# Altium schematic symbol library ATROTECH.SchLib: 260 symbols (part 2 of 2)
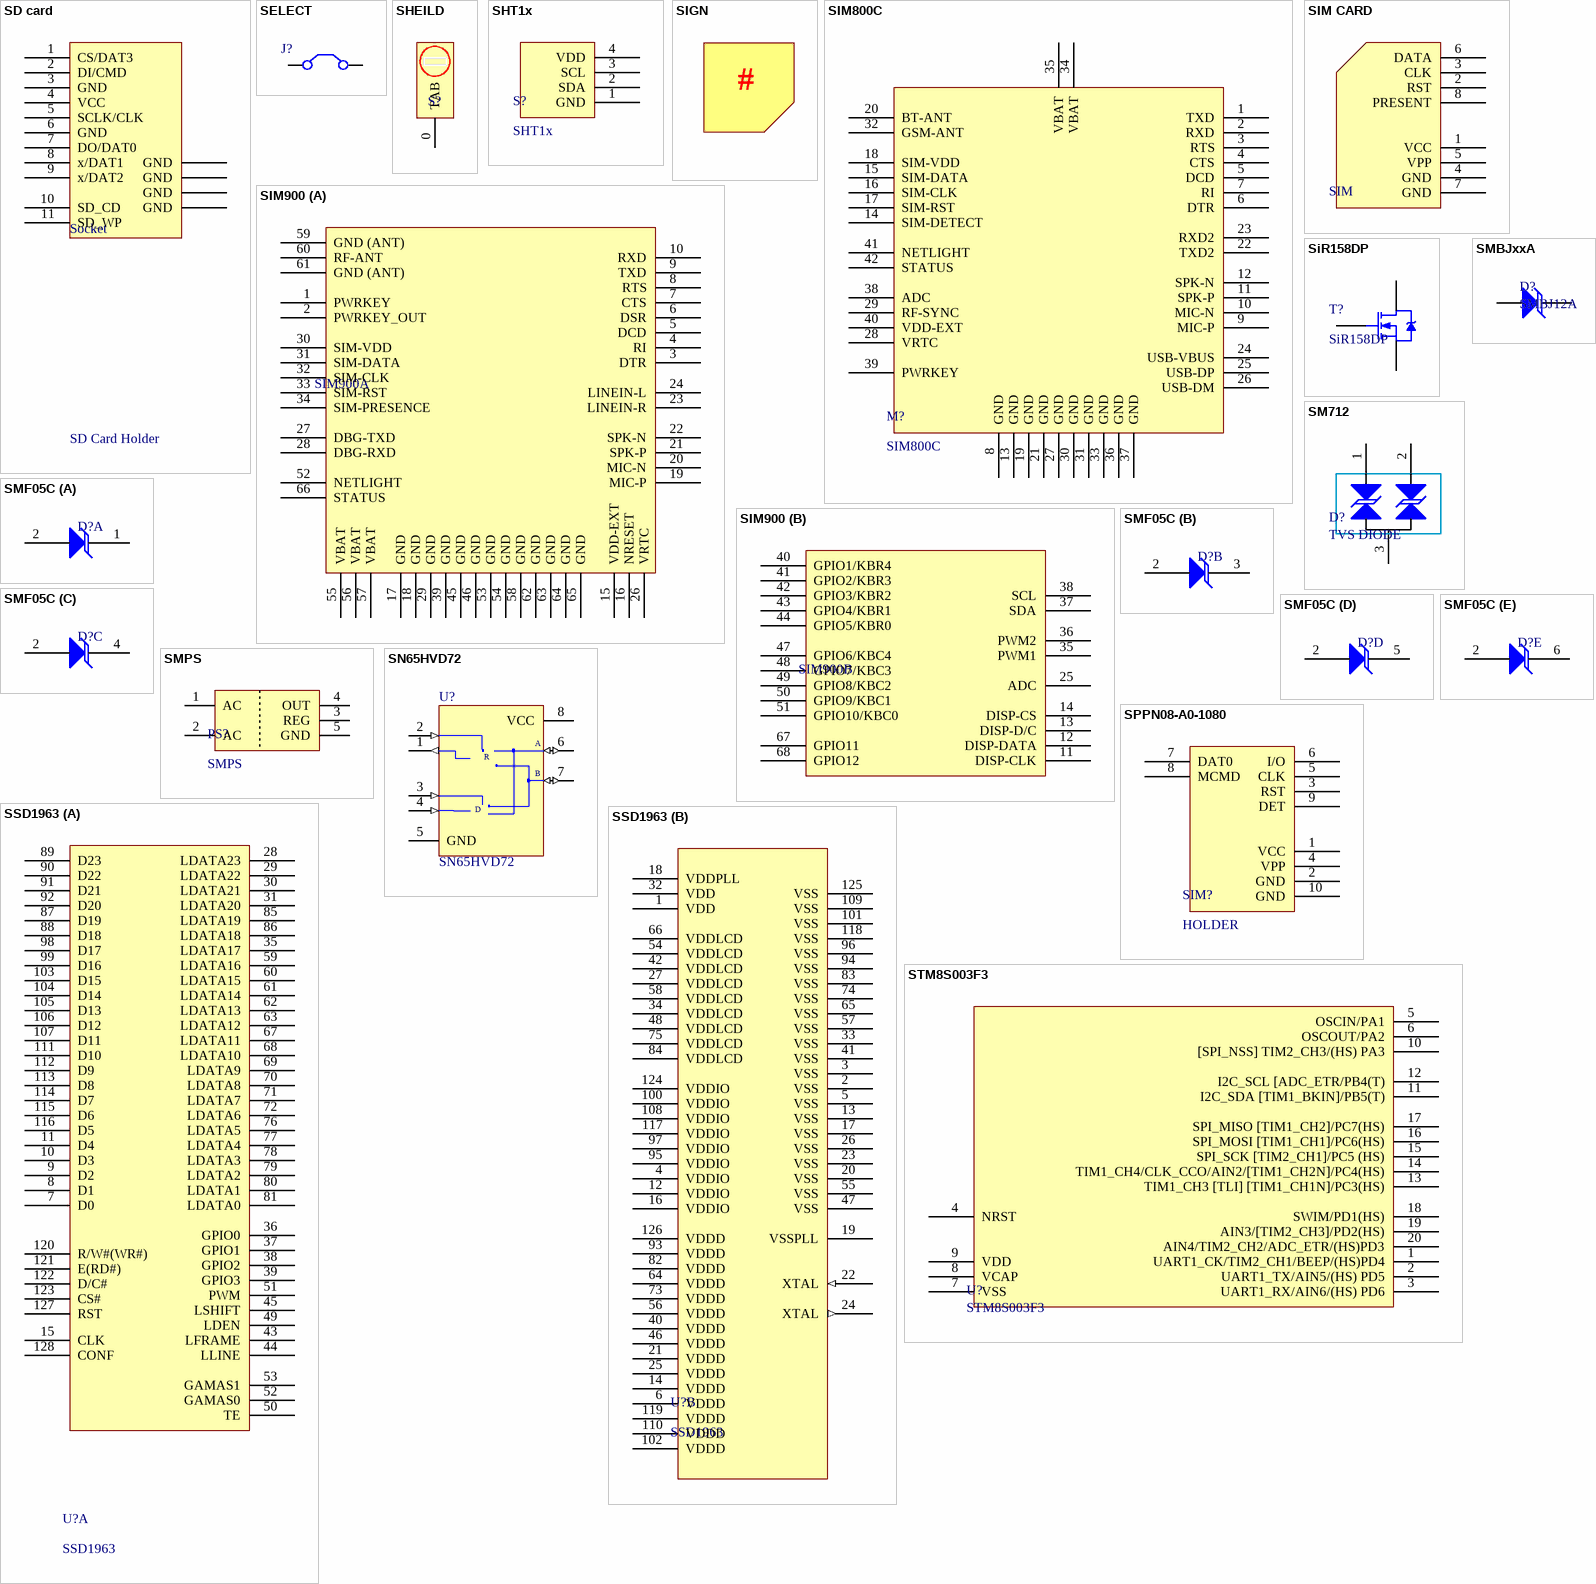
[diagram p11: symbols SD card to STM8S003F3]

## SHT1x
designator S?
Humidity and Temperature Sensor; Type: SHT10, SHT11, SHT15
footprint SHT1x
pins: 1 GND, 2 SDA, 3 SCL, 4 VDD "3.3V"

## SIGN
designator ?
footprint POL-SIGN
text: #

## SIM800C
designator M?
footprint SIM800
pins: 1 TXD, 2 RXD, 3 RTS, 4 CTS, 5 DCD, 6 DTR, 7 RI, 8 GND, 9 MIC-P, 10 MIC-N, 11 SPK-P, 12 SPK-N, 13 GND, 14 SIM-DETECT, 15 SIM-DATA, 16 SIM-CLK, 17 SIM-RST, 18 SIM-VDD, 19 GND, 20 BT-ANT, 21 GND, 22 TXD2, 23 RXD2, 24 USB-VBUS, 25 USB-DP, 26 USB-DM, 27 GND, 28 VRTC, 29 RF-SYNC, 30 GND, 31 GND, 32 GSM-ANT, 33 GND, 34 VBAT, 35 VBAT, 36 GND, 37 GND, 38 ADC, 39 PWRKEY, 40 VDD-EXT, 41 NETLIGHT, 42 STATUS

## SIM900
designator SIM900  (value not drawn)
footprint SIM900
part A pins: 1 PWRKEY, 2 PWRKEY_OUT, 3 DTR, 4 RI, 5 DCD, 6 DSR, 7 CTS, 8 RTS, 9 TXD, 10 RXD, 15 VDD-EXT, 16 NRESET, 17 GND, 18 GND, 19 MIC-P, 20 MIC-N, 21 SPK-P, 22 SPK-N, 23 LINEIN-R, 24 LINEIN-L, 26 VRTC, 27 DBG-TXD, 28 DBG-RXD, 29 GND, 30 SIM-VDD, 31 SIM-DATA, 32 SIM-CLK, 33 SIM-RST, 34 SIM-PRESENCE, 39 GND, 45 GND, 46 GND, 52 NETLIGHT, 53 GND, 54 GND, 55 VBAT, 56 VBAT, 57 VBAT, 58 GND, 59 GND (ANT), 60 RF-ANT, 61 GND (ANT), 62 GND, 63 GND, 64 GND, 65 GND, 66 STATUS
part B pins: 11 DISP-CLK, 12 DISP-DATA, 13 DISP-D/C, 14 DISP-CS, 25 ADC, 35 PWM1, 36 PWM2, 37 SDA, 38 SCL, 40 GPIO1/KBR4, 41 GPIO2/KBR3, 42 GPIO3/KBR2, 43 GPIO4/KBR1, 44 GPIO5/KBR0, 47 GPIO6/KBC4, 48 GPIO7/KBC3, 49 GPIO8/KBC2, 50 GPIO9/KBC1, 51 GPIO10/KBC0, 67 GPIO11, 68 GPIO12

## SIM CARD
designator SIM  (value not drawn)
footprint SIM-HOLDER-2
footprint SIM-HOLDER-6-2
pins: 1 VCC, 2 RST, 3 CLK, 4 GND, 5 VPP, 6 DATA, 7 GND, 8 PRESENT

## SiR158DP
designator T?
N-Channel 30 V (D-S) MOSFET
footprint PowerPAK SO-8 Single
pins: 1 S, 2 S, 3 S, 4 G, 5 D, 6 D, 7 D, 8 D

## SM712
designator D?, comment TVS DIODE
footprint SOT-23
pins: 1 K, 2 K, 3 A

## SMBJxxA
designator D?, comment SMBJ12A
Surface Mount Transient Voltage Suppressors Diode; Parameter 1: *
footprint DO-214AA
pins: 1 A, 2 K

## SMF05C
designator D?  (value not drawn)
TVS Diode Array  For ESD and Latch-Up Protection
footprint SOT-363
part A pins: 1 K, 2 A
part B pins: 2 A, 3 K
part C pins: 2 A, 4 K
part D pins: 2 A, 5 K
part E pins: 2 A, 6 K

## SMPS
designator PS?
footprint SMPS-20X30
pins: 1 AC, 2 AC, 3 REG, 4 OUT, 5 GND

## SN65HVD72
designator U?
3.3-V Supply RS-485 With IEC ESD protection; Published: 16-Jan-2001; LatestRevisionDate: 29-May-2009; LatestRevisionNote: Component Body Added.; DatasheetVersion: Feb-1996; PackageVersion: RevB, 21-0043; PackageReference: PA8; Publisher: Altium Limited; PackageDescription: DIP, 8-Pin, Row Spacing 7.62 mm, Pitch 2.54 mm; Code_JEDEC: MS-001-AB
footprint SOIC-8N
pins: 1 RO (out), 2 ~{RE} (in), 3 DE (in), 4 DI (in), 5 GND (power), 6 A (io), 7 B (io), 8 VCC (power)
text: R; D

## SPPN08-A0-1080
designator SIM?, comment HOLDER
8pin SimCard holder
footprint SPPN08-A0-1080 (8pin Sim card holder)
pins: 1 VCC, 2 GND, 3 RST, 4 VPP, 5 CLK, 6 I/O, 7 DAT0, 8 MCMD, 9 DET, 10 GND

## SSD1963
designator U?
footprint TQFP-128
part A pins: 7 D0, 8 D1, 9 D2, 10 D3, 11 D4, 15 CLK, 28 LDATA23, 29 LDATA22, 30 LDATA21, 31 LDATA20, 35 LDATA17, 36 GPIO0, 37 GPIO1, 38 GPIO2, 39 GPIO3, 43 LFRAME, 44 LLINE, 45 LSHIFT, 49 LDEN, 50 TE, 51 PWM, 52 GAMAS0, 53 GAMAS1, 59 LDATA16, 60 LDATA15, 61 LDATA14, 62 LDATA13, 63 LDATA12, 67 LDATA11, 68 LDATA10, 69 LDATA9, 70 LDATA8, 71 LDATA7, 72 LDATA6, 76 LDATA5, 77 LDATA4, 78 LDATA3, 79 LDATA2, 80 LDATA1, 81 LDATA0, 85 LDATA19, 86 LDATA18, 87 D19, 88 D18, 89 D23, 90 D22, 91 D21, 92 D20, 98 D17, 99 D16, 103 D15, 104 D14, 105 D13, 106 D12, 107 D11, 111 D10, 112 D9, 113 D8, 114 D7, 115 D6, 116 D5, 120 R/W#(WR#), 121 E(RD#), 122 D/C#, 123 CS#, 127 RST, 128 CONF
part B pins: 1 VDD, 2 VSS, 3 VSS, 4 VDDIO, 5 VSS, 6 VDDD, 12 VDDIO, 13 VSS, 14 VDDD, 16 VDDIO, 17 VSS, 18 VDDPLL, 19 VSSPLL, 20 VSS, 21 VDDD, 22 XTAL (in), 23 VSS, 24 XTAL (out), 25 VDDD, 26 VSS, 27 VDDLCD, 32 VDD, 33 VSS, 34 VDDLCD, 40 VDDD, 41 VSS, 42 VDDLCD, 46 VDDD, 47 VSS, 48 VDDLCD, 54 VDDLCD, 55 VSS, 56 VDDD, 57 VSS, 58 VDDLCD, 64 VDDD, 65 VSS, 66 VDDLCD, 73 VDDD, 74 VSS, 75 VDDLCD, 82 VDDD, 83 VSS, 84 VDDLCD, 93 VDDD, 94 VSS, 95 VDDIO, 96 VSS, 97 VDDIO, 100 VDDIO, 101 VSS, 102 VDDD, 108 VDDIO, 109 VSS, 110 VDDD, 117 VDDIO, 118 VSS, 119 VDDD, 124 VDDIO, 125 VSS, 126 VDDD

## STM8S003F3
designator U?
Value line, 16-MHz STM8S 8-bit MCU, 8-Kbyte Flash memory, / 128-byte data EEPROM, 10-bit ADC, 3 timers, UART, SPI, I²C
footprint TSSOP-20 (Footprint not found)
pins: 1 UART1_CK/TIM2_CH1/BEEP/(HS)PD4, 2 UART1_TX/AIN5/(HS) PD5, 3 UART1_RX/AIN6/(HS) PD6, 4 NRST, 5 OSCIN/PA1, 6 OSCOUT/PA2, 7 VSS, 8 VCAP, 9 VDD, 10 [SPI_NSS] TIM2_CH3/(HS) PA3, 11 I2C_SDA [TIM1_BKIN]/PB5(T), 12 I2C_SCL [ADC_ETR/PB4(T), 13 TIM1_CH3 [TLI] [TIM1_CH1N]/PC3(HS), 14 TIM1_CH4/CLK_CCO/AIN2/[TIM1_CH2N]/PC4(HS), 15 SPI_SCK [TIM2_CH1]/PC5 (HS), 16 SPI_MOSI [TIM1_CH1]/PC6(HS), 17 SPI_MISO [TIM1_CH2]/PC7(HS), 18 SWIM/PD1(HS), 19 AIN3/[TIM2_CH3]/PD2(HS), 20 AIN4/TIM2_CH2/ADC_ETR/(HS)PD3

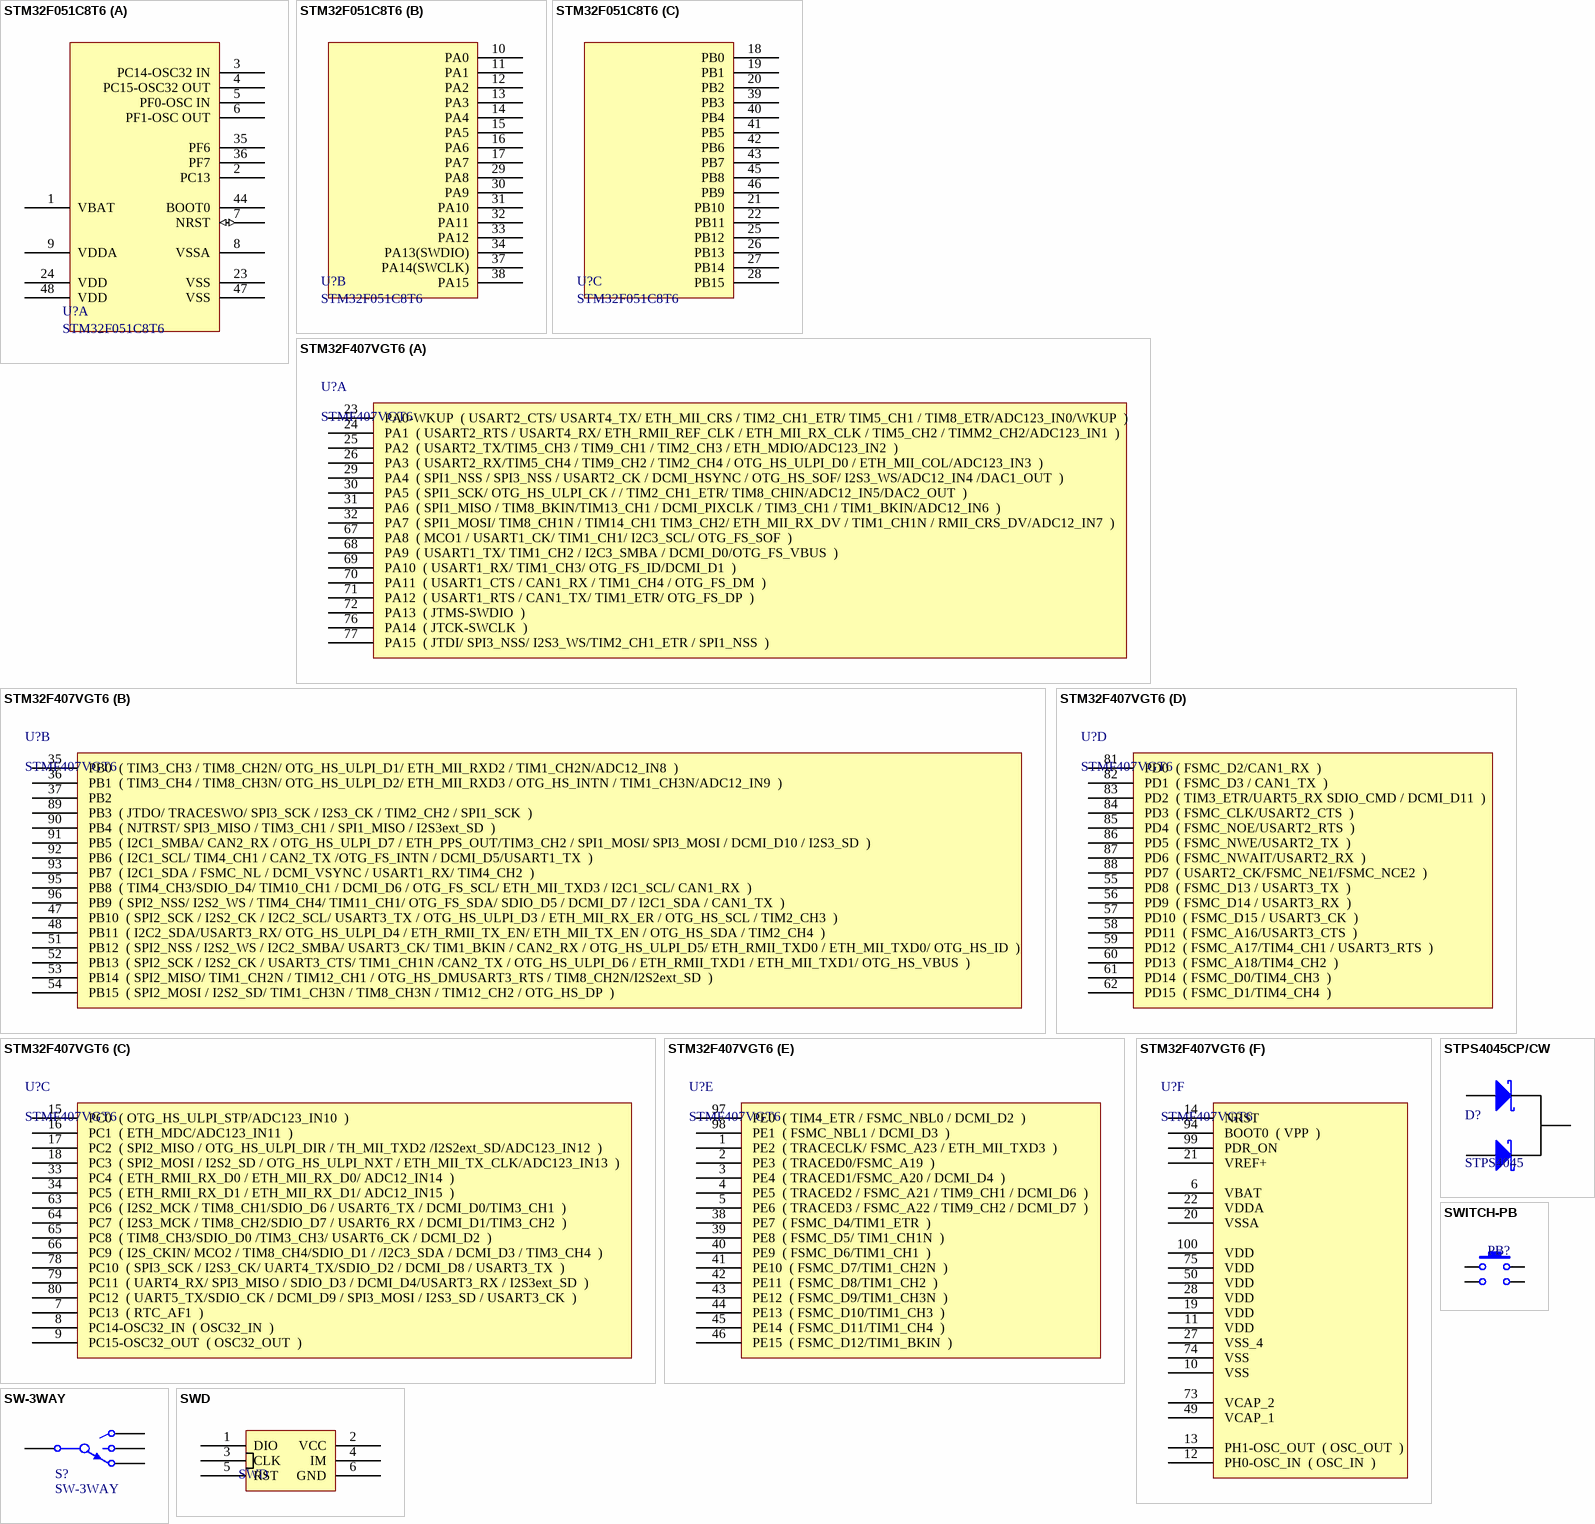
[diagram p8: symbols STM32F051C8T6 to SWITCH-PB]

## STM32F051C8T6
designator U?
ARM®-based 32-bit MCU, 16 to 64 KB Flash, 11 timers, ADC, / DAC and communication interfaces, 2.0-3.6 V
footprint LQFP-48
part A pins: 1 VBAT, 2 PC13, 3 PC14-OSC32 IN, 4 PC15-OSC32 OUT, 5 PF0-OSC IN, 6 PF1-OSC OUT, 7 NRST (io) "Device reset input / internal reset output", 8 VSSA (power) "Analog ground", 9 VDDA (power), 23 VSS, 24 VDD, 35 PF6, 36 PF7, 44 BOOT0, 47 VSS, 48 VDD
part B pins: 10 PA0, 11 PA1, 12 PA2, 13 PA3, 14 PA4, 15 PA5, 16 PA6, 17 PA7, 29 PA8, 30 PA9, 31 PA10, 32 PA11, 33 PA12, 34 PA13(SWDIO), 37 PA14(SWCLK), 38 PA15
part C pins: 18 PB0, 19 PB1, 20 PB2, 21 PB10, 22 PB11, 25 PB12, 26 PB13, 27 PB14, 28 PB15, 39 PB3, 40 PB4, 41 PB5, 42 PB6, 43 PB7, 45 PB8, 46 PB9

## STM32F407VGT6
designator U?, comment STMF407VGT6
footprint TQFP-100
part A pins: 23  PA0-WKUP  ( USART2_CTS/ USART4_TX/ ETH_MII_CRS / TIM2_CH1_ETR/ TIM5_CH1 / TIM8_ETR/ADC123_IN0/WKUP  ), 24  PA1  ( USART2_RTS / USART4_RX/ ETH_RMII_REF_CLK / ETH_MII_RX_CLK / TIM5_CH2 / TIMM2_CH2/ADC123_IN1  ), 25  PA2  ( USART2_TX/TIM5_CH3 / TIM9_CH1 / TIM2_CH3 / ETH_MDIO/ADC123_IN2  ), 26  PA3  ( USART2_RX/TIM5_CH4 / TIM9_CH2 / TIM2_CH4 / OTG_HS_ULPI_D0 / ETH_MII_COL/ADC123_IN3  ), 29  PA4  ( SPI1_NSS / SPI3_NSS / USART2_CK / DCMI_HSYNC / OTG_HS_SOF/ I2S3_WS/ADC12_IN4 /DAC1_OUT  ), 30  PA5  ( SPI1_SCK/ OTG_HS_ULPI_CK / / TIM2_CH1_ETR/ TIM8_CHIN/ADC12_IN5/DAC2_OUT  ), 31  PA6  ( SPI1_MISO / TIM8_BKIN/TIM13_CH1 / DCMI_PIXCLK / TIM3_CH1 / TIM1_BKIN/ADC12_IN6  ), 32  PA7  ( SPI1_MOSI/ TIM8_CH1N / TIM14_CH1 TIM3_CH2/ ETH_MII_RX_DV / TIM1_CH1N / RMII_CRS_DV/ADC12_IN7  ), 67  PA8  ( MCO1 / USART1_CK/ TIM1_CH1/ I2C3_SCL/ OTG_FS_SOF  ), 68  PA9  ( USART1_TX/ TIM1_CH2 / I2C3_SMBA / DCMI_D0/OTG_FS_VBUS  ), 69  PA10  ( USART1_RX/ TIM1_CH3/ OTG_FS_ID/DCMI_D1  ), 70  PA11  ( USART1_CTS / CAN1_RX / TIM1_CH4 / OTG_FS_DM  ), 71  PA12  ( USART1_RTS / CAN1_TX/ TIM1_ETR/ OTG_FS_DP  ), 72  PA13  ( JTMS-SWDIO  ), 76  PA14  ( JTCK-SWCLK  ), 77  PA15  ( JTDI/ SPI3_NSS/ I2S3_WS/TIM2_CH1_ETR / SPI1_NSS  )
part B pins: 35  PB0  ( TIM3_CH3 / TIM8_CH2N/ OTG_HS_ULPI_D1/ ETH_MII_RXD2 / TIM1_CH2N/ADC12_IN8  ), 36  PB1  ( TIM3_CH4 / TIM8_CH3N/ OTG_HS_ULPI_D2/ ETH_MII_RXD3 / OTG_HS_INTN / TIM1_CH3N/ADC12_IN9  ), 37  PB2  , 47  PB10  ( SPI2_SCK / I2S2_CK / I2C2_SCL/ USART3_TX / OTG_HS_ULPI_D3 / ETH_MII_RX_ER / OTG_HS_SCL / TIM2_CH3  ), 48  PB11  ( I2C2_SDA/USART3_RX/ OTG_HS_ULPI_D4 / ETH_RMII_TX_EN/ ETH_MII_TX_EN / OTG_HS_SDA / TIM2_CH4  ), 51  PB12  ( SPI2_NSS / I2S2_WS / I2C2_SMBA/ USART3_CK/ TIM1_BKIN / CAN2_RX / OTG_HS_ULPI_D5/ ETH_RMII_TXD0 / ETH_MII_TXD0/ OTG_HS_ID  ), 52  PB13  ( SPI2_SCK / I2S2_CK / USART3_CTS/ TIM1_CH1N /CAN2_TX / OTG_HS_ULPI_D6 / ETH_RMII_TXD1 / ETH_MII_TXD1/ OTG_HS_VBUS  ), 53  PB14  ( SPI2_MISO/ TIM1_CH2N / TIM12_CH1 / OTG_HS_DMUSART3_RTS / TIM8_CH2N/I2S2ext_SD  ), 54  PB15  ( SPI2_MOSI / I2S2_SD/ TIM1_CH3N / TIM8_CH3N / TIM12_CH2 / OTG_HS_DP  ), 89  PB3  ( JTDO/ TRACESWO/ SPI3_SCK / I2S3_CK / TIM2_CH2 / SPI1_SCK  ), 90  PB4  ( NJTRST/ SPI3_MISO / TIM3_CH1 / SPI1_MISO / I2S3ext_SD  ), 91  PB5  ( I2C1_SMBA/ CAN2_RX / OTG_HS_ULPI_D7 / ETH_PPS_OUT/TIM3_CH2 / SPI1_MOSI/ SPI3_MOSI / DCMI_D10 / I2S3_SD  ), 92  PB6  ( I2C1_SCL/ TIM4_CH1 / CAN2_TX /OTG_FS_INTN / DCMI_D5/USART1_TX  ), 93  PB7  ( I2C1_SDA / FSMC_NL / DCMI_VSYNC / USART1_RX/ TIM4_CH2  ), 95  PB8  ( TIM4_CH3/SDIO_D4/ TIM10_CH1 / DCMI_D6 / OTG_FS_SCL/ ETH_MII_TXD3 / I2C1_SCL/ CAN1_RX  ), 96  PB9  ( SPI2_NSS/ I2S2_WS / TIM4_CH4/ TIM11_CH1/ OTG_FS_SDA/ SDIO_D5 / DCMI_D7 / I2C1_SDA / CAN1_TX  )
part C pins: 7  PC13  ( RTC_AF1  ), 8  PC14-OSC32_IN  ( OSC32_IN  ), 9  PC15-OSC32_OUT  ( OSC32_OUT  ), 15  PC0  ( OTG_HS_ULPI_STP/ADC123_IN10  ), 16  PC1  ( ETH_MDC/ADC123_IN11  ), 17  PC2  ( SPI2_MISO / OTG_HS_ULPI_DIR / TH_MII_TXD2 /I2S2ext_SD/ADC123_IN12  ), 18  PC3  ( SPI2_MOSI / I2S2_SD / OTG_HS_ULPI_NXT / ETH_MII_TX_CLK/ADC123_IN13  ), 33  PC4  ( ETH_RMII_RX_D0 / ETH_MII_RX_D0/ ADC12_IN14  ), 34  PC5  ( ETH_RMII_RX_D1 / ETH_MII_RX_D1/ ADC12_IN15  ), 63  PC6  ( I2S2_MCK / TIM8_CH1/SDIO_D6 / USART6_TX / DCMI_D0/TIM3_CH1  ), 64  PC7  ( I2S3_MCK / TIM8_CH2/SDIO_D7 / USART6_RX / DCMI_D1/TIM3_CH2  ), 65  PC8  ( TIM8_CH3/SDIO_D0 /TIM3_CH3/ USART6_CK / DCMI_D2  ), 66  PC9  ( I2S_CKIN/ MCO2 / TIM8_CH4/SDIO_D1 / /I2C3_SDA / DCMI_D3 / TIM3_CH4  ), 78  PC10  ( SPI3_SCK / I2S3_CK/ UART4_TX/SDIO_D2 / DCMI_D8 / USART3_TX  ), 79  PC11  ( UART4_RX/ SPI3_MISO / SDIO_D3 / DCMI_D4/USART3_RX / I2S3ext_SD  ), 80  PC12  ( UART5_TX/SDIO_CK / DCMI_D9 / SPI3_MOSI / I2S3_SD / USART3_CK  )
part D pins: 55  PD8  ( FSMC_D13 / USART3_TX  ), 56  PD9  ( FSMC_D14 / USART3_RX  ), 57  PD10  ( FSMC_D15 / USART3_CK  ), 58  PD11  ( FSMC_A16/USART3_CTS  ), 59  PD12  ( FSMC_A17/TIM4_CH1 / USART3_RTS  ), 60  PD13  ( FSMC_A18/TIM4_CH2  ), 61  PD14  ( FSMC_D0/TIM4_CH3  ), 62  PD15  ( FSMC_D1/TIM4_CH4  ), 81  PD0  ( FSMC_D2/CAN1_RX  ), 82  PD1  ( FSMC_D3 / CAN1_TX  ), 83  PD2  ( TIM3_ETR/UART5_RX SDIO_CMD / DCMI_D11  ), 84  PD3  ( FSMC_CLK/USART2_CTS  ), 85  PD4  ( FSMC_NOE/USART2_RTS  ), 86  PD5  ( FSMC_NWE/USART2_TX  ), 87  PD6  ( FSMC_NWAIT/USART2_RX  ), 88  PD7  ( USART2_CK/FSMC_NE1/FSMC_NCE2  )
part E pins: 1  PE2  ( TRACECLK/ FSMC_A23 / ETH_MII_TXD3  ), 2  PE3  ( TRACED0/FSMC_A19  ), 3  PE4  ( TRACED1/FSMC_A20 / DCMI_D4  ), 4  PE5  ( TRACED2 / FSMC_A21 / TIM9_CH1 / DCMI_D6  ), 5  PE6  ( TRACED3 / FSMC_A22 / TIM9_CH2 / DCMI_D7  ), 38  PE7  ( FSMC_D4/TIM1_ETR  ), 39  PE8  ( FSMC_D5/ TIM1_CH1N  ), 40  PE9  ( FSMC_D6/TIM1_CH1  ), 41  PE10  ( FSMC_D7/TIM1_CH2N  ), 42  PE11  ( FSMC_D8/TIM1_CH2  ), 43  PE12  ( FSMC_D9/TIM1_CH3N  ), 44  PE13  ( FSMC_D10/TIM1_CH3  ), 45  PE14  ( FSMC_D11/TIM1_CH4  ), 46  PE15  ( FSMC_D12/TIM1_BKIN  ), 97  PE0  ( TIM4_ETR / FSMC_NBL0 / DCMI_D2  ), 98  PE1  ( FSMC_NBL1 / DCMI_D3  )
part F pins: 6  VBAT  , 10  VSS  , 11  VDD  , 12  PH0-OSC_IN  ( OSC_IN  ), 13  PH1-OSC_OUT  ( OSC_OUT  ), 14  NRST  , 19  VDD  , 20  VSSA  , 21  VREF+  , 22  VDDA  , 27  VSS_4  , 28  VDD  , 49  VCAP_1  , 50  VDD  , 73  VCAP_2  , 74  VSS  , 75  VDD  , 94  BOOT0  ( VPP  ), 99  PDR_ON  , 100  VDD  

## STPS4045CP/CW
designator D?, comment STPS4045
POWER SCHOTTKY RECTIFIERS; Published: 8-Jun-2000; LatestRevisionDate: 17-Jul-2002; LatestRevisionNote: Re-released for DXP Platform.; PackageReference: SMB; Publisher: Altium Limited; PackageDescription: DO-214-AA/SMB; 2 C-Bend Leads; Body 5.3 x 3.6 mm, inc. leads (LxW); Code_JEDEC: DO-214-AA
footprint TO-247 (SIP with Mounting Hole; 3 Leads; Body 20 x 15.6 x 5 mm (typ); Pitch 5.45 mm)
pins: 1 A1, 2 K, 3 A2

## SW-3WAY
designator S?
3 Way Switch; Published: 24-Mar-1999; LatestRevisionDate: 17-Jul-2002; LatestRevisionNote: Re-released for DXP Platform.; PackageReference: SW-7; Publisher: Altium Limited; PackageDescription: Switch; 7 Leads
pins: 1 2, 2, 3, 4

## SWD
designator SWD, comment PHDR 2X6  (value not drawn)
footprint phdr2x3
pins: 1 DIO, 2 VCC, 3 CLK, 4 IM, 5 RST, 6 GND

## SWITCH-PB
designator PB?, comment Push Button  (value not drawn)
footprint PB-SMD-3
footprint PB-SMD-1
footprint PB-SMD-2
footprint PB-1 (SHORT PUSH BUTTON)
footprint PB-2
footprint PB-3 (12mmx12mm)
pins: 1, 2, 3, 4

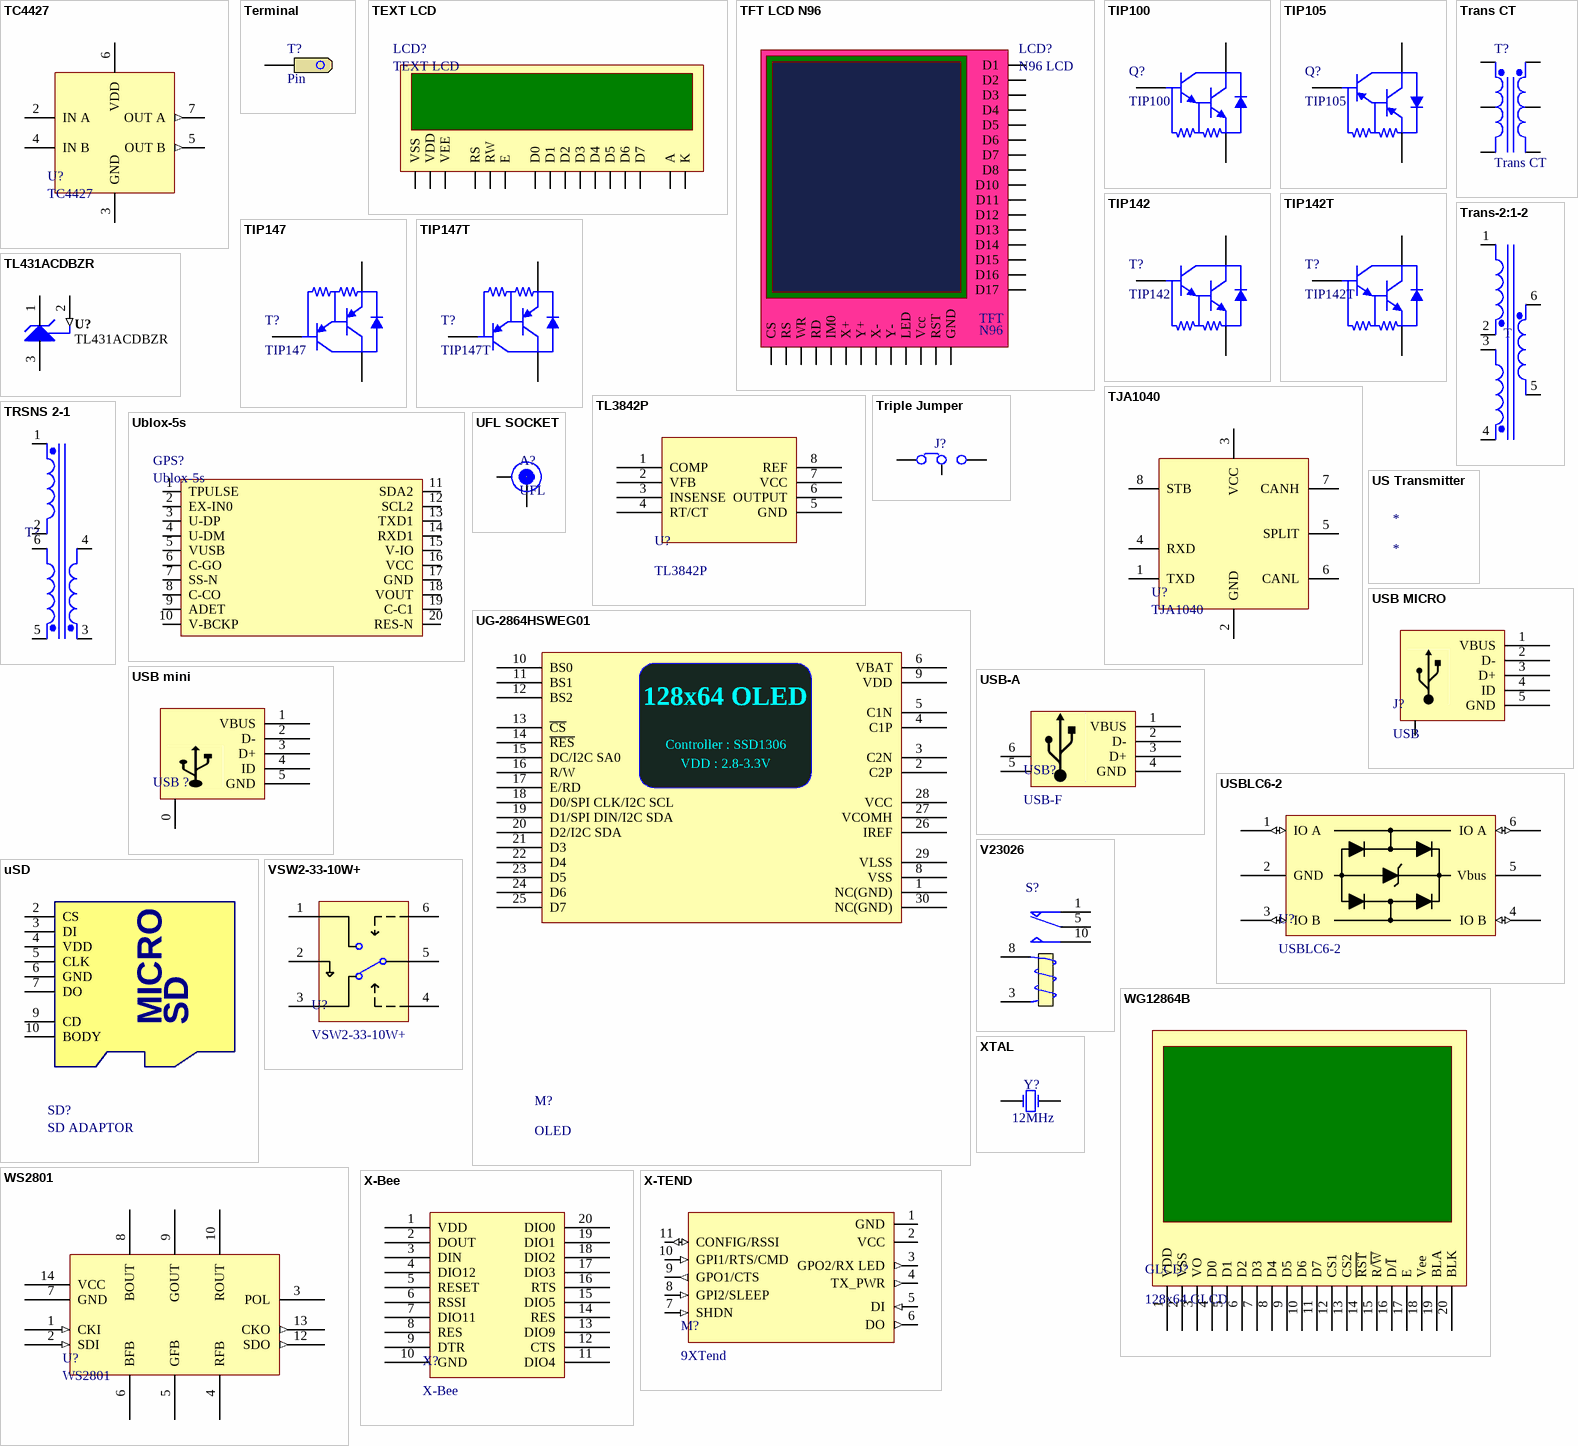
[diagram p9: symbols TC4427 to XTAL]

## TC4427
designator U?
1.5A Dual High-Speed Power MOSFET Drivers
footprint SOIC-8N
pins: 2 IN A, 3 GND (power), 4 IN B, 5 OUT B (out), 6 VDD (power), 7 OUT A (out)

## Terminal
designator T?, comment Pin
footprint terminal
footprint terminal-small
pins: 1 Pin

## TEXT LCD
designator LCD?
Use for all 8bit LCD text of any size
footprint HDR2X8 (Footprint not found)
pins: 1 VSS, 2 VDD, 3 VEE, 4 RS, 5 RW, 6 E, 7 D0, 8 D1, 9 D2, 10 D3, 11 D4, 12 D5, 13 D6, 14 D7, 15 A, 16 K, MH hidden

## TFT LCD N96
designator LCD?, comment N96 LCD
N96 TFT LCD Module
footprint 2.8" TFT (ECA TFT LCD)
pins: 1 D2, 2 D1, 3 D4, 4 D3, 5 CS, 6 Vcc, 7 WR, 8 RS, 9 IM0, 10 RD, 11 Y+, 12 X+, 13 Y-, 14 X-, 15 GND, 16 LED, 17 D10, 18 D5, 19 D12, 20 D11, 21 D14, 22 D13, 23 D16, 24 D15, 25 RST, 26 D17, 27 D6, 29 D8, 30 D7
text: TFT; N96

## TIP100
designator Q?
TIP100,TIP101,TIP102
footprint TO-220
pins: 1 B, 2 C, 3 E

## TIP105
designator Q?
TIP105,TIP106,T107
footprint TO-220
pins: 1 B, 2 C, 3 E

## TIP142
designator T?
TIP142,TIP141,TIP140
footprint TO-247 (SIP with Mounting Hole; 3 Leads; Body 20 x 15.6 x 5 mm (typ); Pitch 5.45 mm)
pins: 1 B, 2 C, 3 E

## TIP142T
designator T?
10A 100V  Darlington transistors
footprint TO-220
footprint TO-220 RIGHT
pins: 1 B, 2 C, 3 E

## TIP147
designator T?
TIP145,TIP146,TIP147
footprint TO-247 (SIP with Mounting Hole; 3 Leads; Body 20 x 15.6 x 5 mm (typ); Pitch 5.45 mm)
pins: 1 B, 2 C, 3 E

## TIP147T
designator T?
-10A -100V  Darlington transistors
footprint TO-220
footprint TO-220 RIGHT
pins: 1 B, 2 C, 3 E

## TJA1040
designator U?
footprint SOIC-8N
pins: 1 TXD, 2 GND, 3 VCC, 4 RXD, 5 SPLIT, 6 CANL, 7 CANH, 8 STB

## TL431ACDBZR
designator U?
Adjustable Precision Shunt Regulator, 34 ppm / degC, 100 mA, 0 to 70 degC, 3-pin SOT-23 (DBZ), Green (RoHS & no Sb/Br); Manufacturer: Texas Instruments; Initial Accuracy @ 25/deg C(%): 1; Iout/Iz(Max)(mA): 100; Min Iz for Regulation(uA): 600; Rating: Catalog; SubFamily: Shunt Voltage Reference; Temp Coeff(Typ)(ppm/ degree C): 34; VO Adj(Max)(V): 36; VO Adj(Min)(V): 2.495; DatasheetVersion: SLVS543M; PackageVersion: 4203227/B; PackageReference: DBZ3; PackageDescription: 3-Pin Plastic Small Outline, Body 2.92 x 1.3 mm, Pitch 0.95 mm; Supplier 1: Digi-Key; Supplier Part Number 1: 296-17328-2-ND; Supplier 2: Digi-Key; Supplier Part Number 2: 296-17328-1-ND; Supplier 3: Digi-Key; Supplier Part Number 3: 296-17328-6-ND; Supplier 4: Farnell; Supplier Part Number 4: 1411099; Supplier 5: Newark; Supplier Part Number 5: 44J2369; Supplier 6: Mouser; Supplier Part Number 6: 595-TL431ACDBZR; Eco-Plan: Green (RoHS & no Sb/Br); Mounting Technology: Surface Mount; Code_JEDEC: TO-236; PartNumber: TL431ACDBZR; ComponentLink1Description: Manufacturer URL; ComponentLink1URL: http://www.ti.com/; ComponentLink2Description: Datasheet; ComponentLink2URL: http://www.ti.com/general/docs/lit/getliterature.tsp?genericPartNumber=TL431A&fileType=pdf; ComponentLink3Description: Package Specification; ComponentLink3URL: http://www.ti.com/litv/pdf/mpds108a
footprint SOT-23-3 (SOT-23 3PIN)
pins: 1 CATHODE, 2 REF (in), 3 ANODE

## TL3842P
designator U?
CURRENT-MODE PWM CONTROLLERS
footprint DIP-8
pins: 1 COMP, 2 VFB, 3 INSENSE, 4 RT/CT, 5 GND, 6 OUTPUT, 7 VCC, 8 REF

## Trans CT
designator T?
Center-Tapped Transformer (Coupled Inductor Model); Published: 8-Jun-2000; LatestRevisionDate: 17-Jul-2002; LatestRevisionNote: Re-released for DXP Platform.; PackageReference: TRF_5; Publisher: Altium Limited; PackageDescription: Transformer; 5 Leads
footprint TRF_5 (Transformer; 5 Leads)
pins: 1 Sec+, 2 Pri-, 2 SecCT, 3 Sec-, 5 PriCT, 6 Pri+

## Trans-2:1-2
designator T, comment Transformator  (value not drawn)
footprint TRANS-21-2
pins: 1 S, 2 F, 3 F, 4 S, 5, 6

## Triple Jumper
designator J?, comment jumper  (value not drawn)
Jumper wire
footprint jumper-3
pins: 1 C1, 2 C2, 3 C3

## TRSNS 2-1
designator T?, comment Transformer 2-1  (value not drawn)
Three-winding Transformer
footprint TOROID-CORE-1
pins: 1 S, 2 F, 3 S, 4 F, 5 S, 6 F

## Ublox-5s
designator GPS?
Ublox-5s GPS Module
footprint Ublox-5s (Ublox-5s GPS Module)
pins: 1 TPULSE, 2 EX-IN0, 3 U-DP, 4 U-DM, 5 VUSB, 6 C-GO, 7 SS-N, 8 C-CO, 9 ADET, 10 V-BCKP, 11 SDA2, 12 SCL2, 13 TXD1, 14 RXD1, 15 V-IO, 16 VCC, 17 GND, 18 VOUT, 19 C-C1, 20 RES-N

## UFL SOCKET
designator A?, comment UFL
footprint IPX
pins: 1, 2

## UG-2864HSWEG01
designator M?, comment OLED
128x64 OLED
footprint UG-2864HSWEG01 (0.96INCH OLED 128x64)
pins: 1 NC(GND), 2 C2P, 3 C2N, 4 C1P, 5 C1N, 6 VBAT, 7 NC hidden, 8 VSS, 9 VDD, 10 BS0, 11 BS1, 12 BS2, 13 ~{CS}, 14 ~{RES}, 15 DC/I2C SA0, 16 R/W, 17 E/RD, 18 D0/SPI CLK/I2C SCL, 19 D1/SPI DIN/I2C SDA, 20 D2/I2C SDA, 21 D3, 22 D4, 23 D5, 24 D6, 25 D7, 26 IREF, 27 VCOMH, 28 VCC, 29 VLSS, 30 NC(GND)
text: Controller : SSD1306; VDD : 2.8-3.3V

## US Transmitter
designator *

## USB MICRO
designator J?, comment USB
Micro USB Onboard
footprint MICRO-USB
footprint MICRO-USB-1 (Footprint not found)
pins: 0, 1 VBUS (power), 2 D-, 3 D+, 4 ID (power), 5 GND (power)

## USB mini
designator USB ?  (value not drawn)
footprint USB-MINI-SMD
pins: 0 BODY, 1 VBUS (power), 2 D-, 3 D+, 4 ID (power), 5 GND (power)

## USB-A
designator USB?, comment USB-F
footprint USB-A-F
pins: 1 VBUS (power), 2 D-, 3 D+, 4 GND (power), 5, 6

## USBLC6-2
designator U?
Very low capacitance ESD protection
footprint SOT-23-6
pins: 1 IO A (io), 2 GND (power), 3 IO B (io), 4 IO B (io), 5 Vbus (power), 6 IO A (io)

## uSD
designator SD?, comment SD ADAPTOR
uSD ADAPTOR; Designer: Parsa Malekpour; Email: malekpour.parsa@Gmail.com; weblog: p-malekpour.blogfa.com
footprint MICRO-SD
pins: 1 DAT2            hidden, 2 CS, 3 DI, 4 VDD, 5 CLK, 6 GND, 7 DO, 8 DAT1            hidden, 9 CD "CARD DETECTION", 10 BODY
text: MICRO; SD

## V23026
designator S?, comment Signal Relays  (value not drawn)
P1 Relay V23026
footprint V23026-A1001-b201
pins: 1 NC, 3 T2, 5 COM, 6 COM, 8 T1, 10 NO

## VSW2-33-10W+
designator U?
footprint pl-324
pins: 1 J3, 2 GND, 3 J2, 4 V1, 5 J1, 6 V2

## WG12864B
designator GLCD?, comment 128x64 GLCD
footprint WG12864B
pins: 1 VDD "GND", 2 VSS "+5V", 3 VO, 4 D0, 5 D1, 6 D2, 7 D3, 8 D4, 9 D5, 10 D6, 11 D7, 12 CS1, 13 CS2, 14 ~{RST}, 15 R/~{W}, 16 D/~{I}, 17 E, 18 Vee, 19 BLA, 20 BLK

## WS2801
designator U?
3-Channel Constant Current / LED Driver With Programmable / PWM Outputs
footprint SOIC-14N
pins: 1 CKI (in), 2 SDI (in), 3 POL (power), 4 RFB (power), 5 GFB (power), 6 BFB (power), 7 GND (power), 8 BOUT (power), 9 GOUT (power), 10 ROUT (power), 12 SDO (out), 13 CKO (out), 14 VCC (power)

## X-Bee
designator X?
footprint XBEE
pins: 1 VDD, 2 DOUT, 3 DIN, 4 DIO12, 5 RESET, 6 RSSI, 7 DIO11, 8 RES, 9 DTR, 10 GND, 11 DIO4, 12 CTS, 13 DIO9, 14 RES, 15 DIO5, 16 RTS, 17 DIO3, 18 DIO2, 19 DIO1, 20 DIO0

## X-TEND
designator M?, comment 9XTend
9XTend 900MHz RF Module; Designer: Parsa Malekpour; Email: Parsa Malekpour
footprint 9XTend (9XTend 900MHz RF Module)
pins: 1 GND (power), 2 VCC (power), 3 GPO2/RX LED (out), 4 TX_PWR (out), 5 DI (in) "UART RX", 6 DO (out) "UART TX", 7 SHDN (in) "SHOUT DOWN", 8 GPI2/SLEEP (in), 9 GPO1/CTS (out), 10 GPI1/RTS/CMD (in), 11 CONFIG/RSSI (io)

## XTAL
designator Y?, comment 12MHz
Crystal Oscillator; Designer: Parsa Malekpour; Email: Malekpour.parsa@Gmail.com; Value: 12MHz
footprint XTAL18
footprint R38 (RTC Crystal PCB)
footprint XTAL-SMD
footprint XTAL-SHORT
footprint XTAL-LONG
pins: 1 OSC1, 2 OSC2

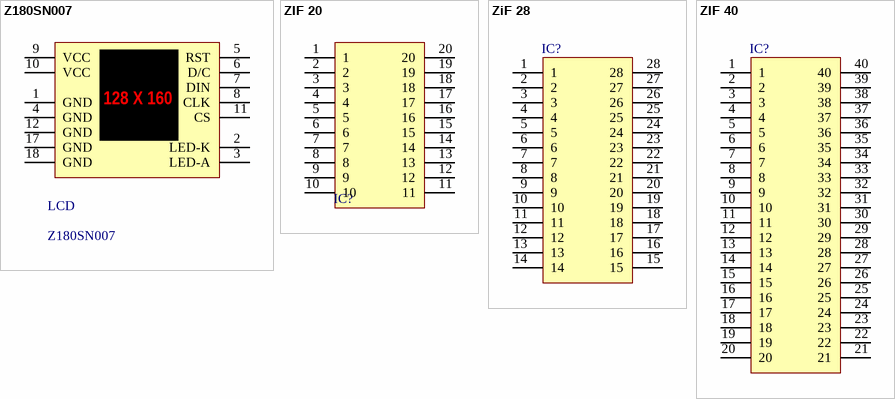
[diagram p10: symbols Z180SN007 to ZIF 40]

## Z180SN007
designator LCD
1.8 INCH Display ST7735S
footprint LCD-Z180SN007
pins: 1 GND, 2 LED-K, 3 LED-A, 4 GND, 5 RST, 6 D/C, 7 DIN, 8 CLK, 9 VCC, 10 VCC, 11 CS, 12 GND, 17 GND, 18 GND
text: 128 X 160

## ZIF 20
designator IC?, comment Zif Socket  (value not drawn)
20pin Zip/Zif Socket; Company: ECI CO.; Adding Date: 11/25/2011
footprint ZIF-20
pins: 1, 2, 3, 4, 5, 6, 7, 8, 9, 10, 11, 12, 13, 14, 15, 16, 17, 18, 19, 20

## ZiF 28
designator IC?, comment ZiF 28 Socket  (value not drawn)
Company: ECI CO.; Adding Date: 11/25/2011
footprint zif-28 (Footprint not found)
pins: 1, 2, 3, 4, 5, 6, 7, 8, 9, 10, 11, 12, 13, 14, 15, 16, 17, 18, 19, 20, 21, 22, 23, 24, 25, 26, 27, 28

## ZIF 40
designator IC?, comment ZIF 40 Socket  (value not drawn)
40pin Zif Socket; Company: ECI CO.; Adding Date: 11/25/2011
footprint DIP40 - Zip Socket
footprint zif-40
pins: 1, 2, 3, 4, 5, 6, 7, 8, 9, 10, 11, 12, 13, 14, 15, 16, 17, 18, 19, 20, 21, 22, 23, 24, 25, 26, 27, 28, 29, 30, 31, 32, 33, 34, 35, 36, 37, 38, 39, 40